# Altium schematic symbol library ESP-WROOM-32D.SchLib: 1 symbol
Pins are listed as number, name and electrical type; pins without a type are passive.

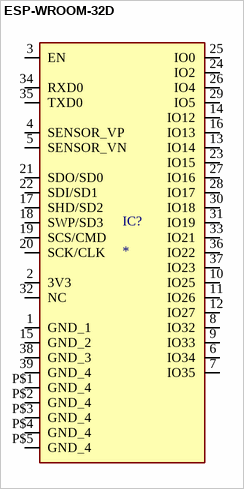
[diagram p0: symbol ESP-WROOM-32D]

## ESP-WROOM-32D
designator IC?
WiFi / 802.11 Modules; MF: Espressif Systems; MP: ESP-WROOM-32D; SnapEDA_Link: https://www.snapeda.com/parts/ESP-WROOM-32D/Espressif+Systems/view-part/?ref=snap; Package: None; Value: *; Check_prices: https://www.snapeda.com/parts/ESP-WROOM-32D/Espressif+Systems/view-part/?ref=eda
footprint ESPWROOM32D
pins: 1 GND_1 (io), 2 3V3 (io), 3 EN (io), 4 SENSOR_VP (io), 5 SENSOR_VN (io), 6 IO34 (io), 7 IO35 (io), 8 IO32 (io), 9 IO33 (io), 10 IO25 (io), 11 IO26 (io), 12 IO27 (io), 13 IO14 (io), 14 IO12 (io), 15 GND_2 (io), 16 IO13 (io), 17 SHD/SD2 (io), 18 SWP/SD3 (io), 19 SCS/CMD (io), 20 SCK/CLK (io), 21 SDO/SD0 (io), 22 SDI/SD1 (io), 23 IO15 (io), 24 IO2 (io), 25 IO0 (io), 26 IO4 (io), 27 IO16 (io), 28 IO17 (io), 29 IO5 (io), 30 IO18 (io), 31 IO19 (io), 32 NC, 33 IO21 (io), 34 RXD0 (io), 35 TXD0 (io), 36 IO22 (io), 37 IO23 (io), 38 GND_3 (io), 39 GND_4 (io), P$1 GND_4 (io), P$2 GND_4 (io), P$3 GND_4 (io), P$4 GND_4 (io), P$5 GND_4 (io)